# Altium footprint library CAPPR500W60D1000H1600B.PcbLib: 1 footprints
Each footprint in its own frame and in the unit in brackets; x right, y up, seen from the top. Pads: shape width x height; smd on the part's side, far side on the other; paste and mask are expansions set on the pad; w line width, h text height; cw(c..) or ccw(c..) is an arc to the next point about the centre after c.
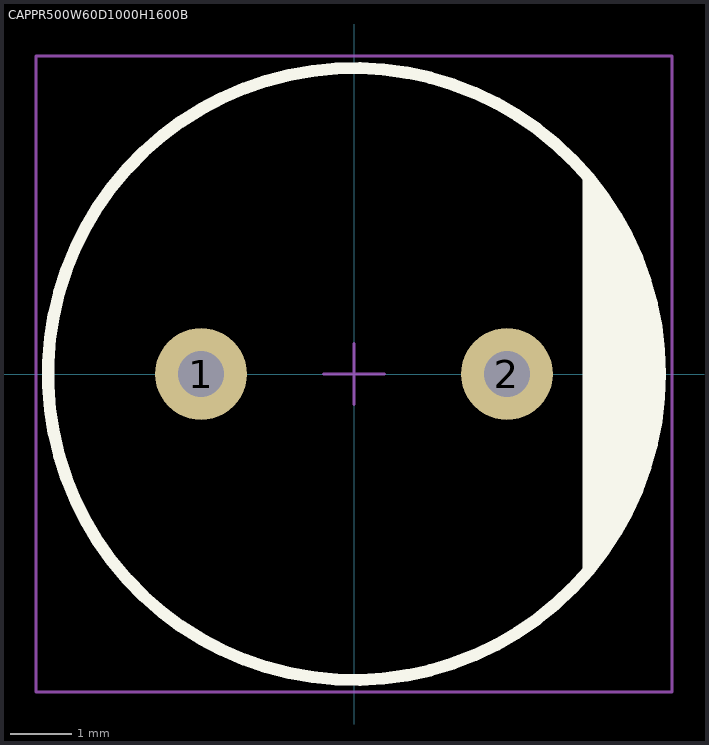
[diagram p0: the footprint, top view; thin cyan lines are the x and y axes]

## CAPPR500W60D1000H1600B [mm] "CAPPR500W60D1000H1600B"
height 16
pads (2):
  round 1.5 hole 0.75 mask+0.05: 1(-2.5,0) 2(2.5,0)
Top Overlay:
  circle w0.2: c0,0 r5
  region: 3.736,3.295 3.868,3.168 4.711,1.676 4.983,0.414 4.963,-0.605 4.65,-1.837 4.013,-2.983 3.736,-3.262
Mechanical 13:
  circle w0.1: c0,0 r5
Mechanical 15:
  lines w0.05: -0.5,0 0.5,0 ; 0,-0.5 0,0.5 ; -5.2,-5.2 5.2,-5.2 5.2,5.2 -5.2,5.2 -5.2,-5.2
3D body: height 16, standoff 0, extent -5,-5 5,5